# EAGLE library part GEN_16_EP (library bschulz)
Generic 16 Pin Package for Breakout Boards
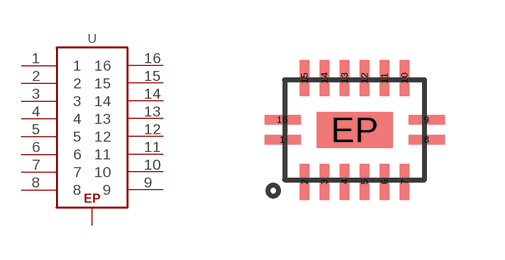
[diagram p167: symbol with the pads of VQFN-16; footprint VQFN-16]

Designator prefix U

## GEN_16_EPVQFN-16  [VQFN-16]
1  1
2  2
3  3
4  4
5  5
6  6
7  7
8  8
9  9
10  10
11  11
12  12
13  13
14  14
15  15
16  16
EP  EP  pas

## Footprint VQFN-16 (pad centres in mm)
DHVQFN, 16 Pos (SOT763-1) Datasheet <https://assets.nexperia.com/documents/package-information/SOT763-1.pdf>
smd 0.9 x 0.24: 1 -1.8,-0.25; 8 1.8,-0.25; 9 1.8,0.25; 16 -1.8,0.25
smd 0.24 x 0.9: 2 -1.25,-1.3; 3 -0.75,-1.3; 4 -0.25,-1.3; 5 0.25,-1.3; 6 0.75,-1.3; 7 1.25,-1.3; 10 1.25,1.3; 11 0.75,1.3; 12 0.25,1.3; 13 -0.25,1.3; 14 -0.75,1.3; 15 -1.25,1.3
smd 1.9 x 0.9: EP 0,0